# Altium integrated library Circuit Protection -TVSP_rev15a (1).intlib: 320 symbols (part 3 of 4)
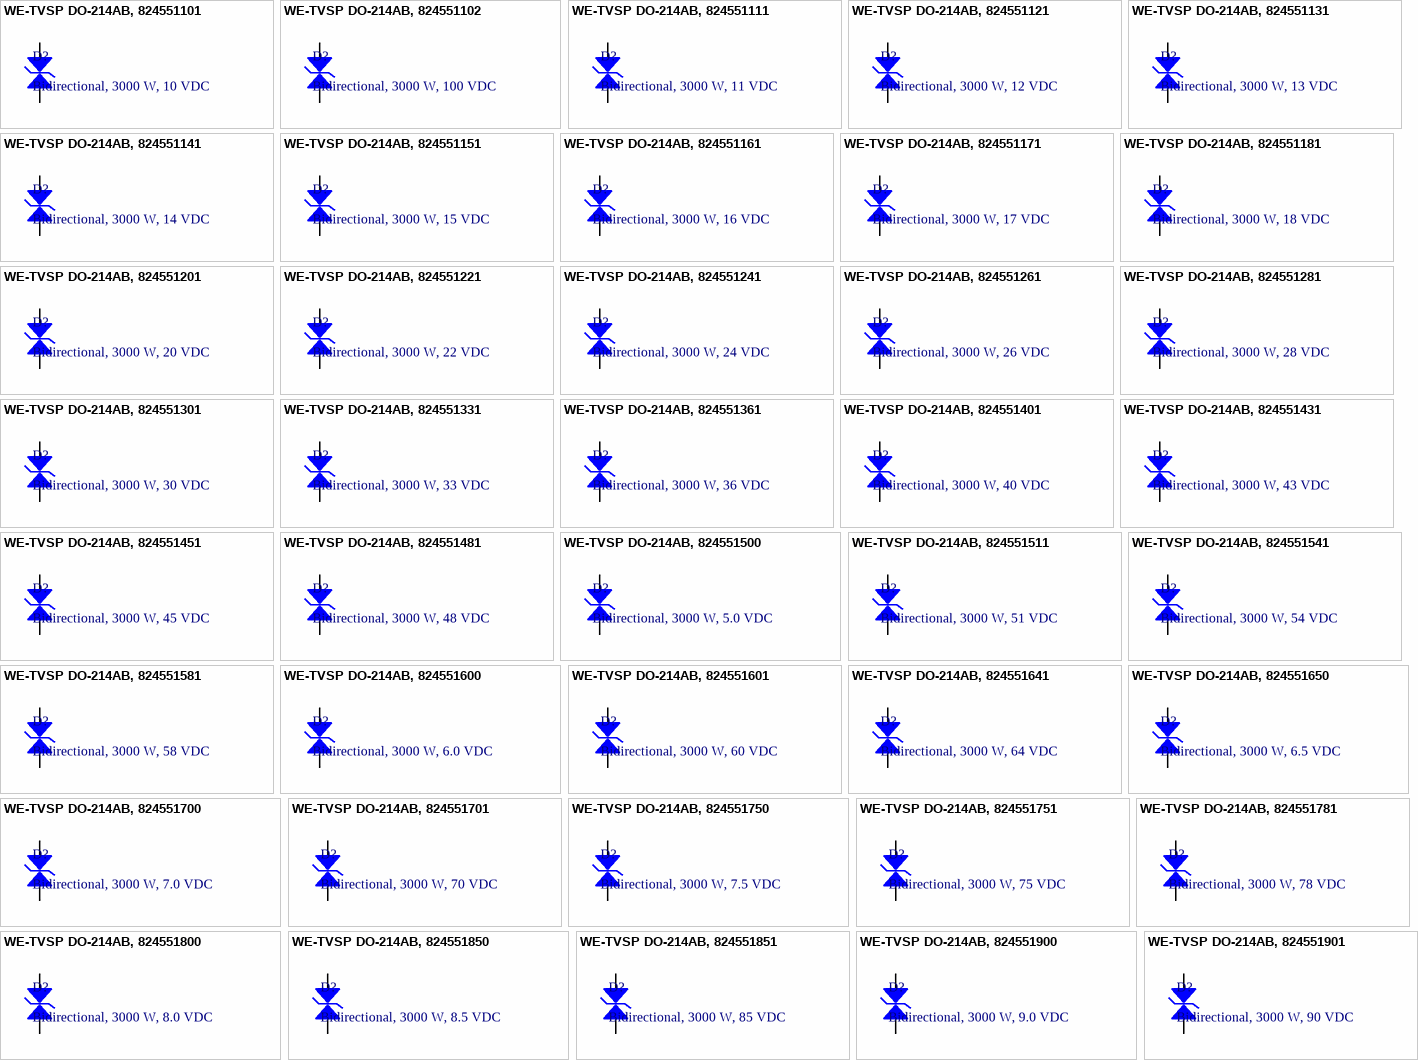
[diagram p9: symbols WE-TVSP DO-214AB, 824551101 to WE-TVSP DO-214AB, 824551901]

## WE-TVSP DO-214AB, 824551131
designator D?, comment Bidirectional, 3000 W, 13 VDC
WE-TVSP Power TVS Diode, bidirectional, 3000 W, 13 VDC; partNo: 824551131; Manufacturer: Wurth Elektronik; ComponentLink1Description: Manufacturer; ComponentLink1URL: http://www.we-online.de; Created by: Baojun Chen; Created Date: Nov.2015; ComponentLink2Description: Datasheet; ComponentLink2URL: http://katalog.we-online.de/pbs/datasheet/824551131.pdf
footprint DO-214AB_Bidirectional
pins: 1, 2

## WE-TVSP DO-214AB, 824551141
designator D?, comment Bidirectional, 3000 W, 14 VDC
WE-TVSP Power TVS Diode, bidirectional, 3000 W, 14 VDC; partNo: 824551141; Manufacturer: Wurth Elektronik; ComponentLink1Description: Manufacturer; ComponentLink1URL: http://www.we-online.de; Created by: Baojun Chen; Created Date: Nov.2015; ComponentLink2Description: Datasheet; ComponentLink2URL: http://katalog.we-online.de/pbs/datasheet/824551141.pdf
footprint DO-214AB_Bidirectional
pins: 1, 2

## WE-TVSP DO-214AB, 824551151
designator D?, comment Bidirectional, 3000 W, 15 VDC
WE-TVSP Power TVS Diode, bidirectional, 3000 W, 15 VDC; partNo: 824551151; Manufacturer: Wurth Elektronik; ComponentLink1Description: Manufacturer; ComponentLink1URL: http://www.we-online.de; Created by: Baojun Chen; Created Date: Nov.2015; ComponentLink2Description: Datasheet; ComponentLink2URL: http://katalog.we-online.de/pbs/datasheet/824551151.pdf
footprint DO-214AB_Bidirectional
pins: 1, 2

## WE-TVSP DO-214AB, 824551161
designator D?, comment Bidirectional, 3000 W, 16 VDC
WE-TVSP Power TVS Diode, bidirectional, 3000 W, 16 VDC; partNo: 824551161; Manufacturer: Wurth Elektronik; ComponentLink1Description: Manufacturer; ComponentLink1URL: http://www.we-online.de; Created by: Baojun Chen; Created Date: Nov.2015; ComponentLink2Description: Datasheet; ComponentLink2URL: http://katalog.we-online.de/pbs/datasheet/824551161.pdf
footprint DO-214AB_Bidirectional
pins: 1, 2

## WE-TVSP DO-214AB, 824551171
designator D?, comment Bidirectional, 3000 W, 17 VDC
WE-TVSP Power TVS Diode, bidirectional, 3000 W, 17 VDC; partNo: 824551171; Manufacturer: Wurth Elektronik; ComponentLink1Description: Manufacturer; ComponentLink1URL: http://www.we-online.de; Created by: Baojun Chen; Created Date: Nov.2015; ComponentLink2Description: Datasheet; ComponentLink2URL: http://katalog.we-online.de/pbs/datasheet/824551171.pdf
footprint DO-214AB_Bidirectional
pins: 1, 2

## WE-TVSP DO-214AB, 824551181
designator D?, comment Bidirectional, 3000 W, 18 VDC
WE-TVSP Power TVS Diode, bidirectional, 3000 W, 18 VDC; partNo: 824551181; Manufacturer: Wurth Elektronik; ComponentLink1Description: Manufacturer; ComponentLink1URL: http://www.we-online.de; Created by: Baojun Chen; Created Date: Nov.2015; ComponentLink2Description: Datasheet; ComponentLink2URL: http://katalog.we-online.de/pbs/datasheet/824551181.pdf
footprint DO-214AB_Bidirectional
pins: 1, 2

## WE-TVSP DO-214AB, 824551201
designator D?, comment Bidirectional, 3000 W, 20 VDC
WE-TVSP Power TVS Diode, bidirectional, 3000 W, 20 VDC; partNo: 824551201; Manufacturer: Wurth Elektronik; ComponentLink1Description: Manufacturer; ComponentLink1URL: http://www.we-online.de; Created by: Baojun Chen; Created Date: Nov.2015; ComponentLink2Description: Datasheet; ComponentLink2URL: http://katalog.we-online.de/pbs/datasheet/824551201.pdf
footprint DO-214AB_Bidirectional
pins: 1, 2

## WE-TVSP DO-214AB, 824551221
designator D?, comment Bidirectional, 3000 W, 22 VDC
WE-TVSP Power TVS Diode, bidirectional, 3000 W, 22 VDC; partNo: 824551221; Manufacturer: Wurth Elektronik; ComponentLink1Description: Manufacturer; ComponentLink1URL: http://www.we-online.de; Created by: Baojun Chen; Created Date: Nov.2015; ComponentLink2Description: Datasheet; ComponentLink2URL: http://katalog.we-online.de/pbs/datasheet/824551221.pdf
footprint DO-214AB_Bidirectional
pins: 1, 2

## WE-TVSP DO-214AB, 824551241
designator D?, comment Bidirectional, 3000 W, 24 VDC
WE-TVSP Power TVS Diode, bidirectional, 3000 W, 24 VDC; partNo: 824551241; Manufacturer: Wurth Elektronik; ComponentLink1Description: Manufacturer; ComponentLink1URL: http://www.we-online.de; Created by: Baojun Chen; Created Date: Nov.2015; ComponentLink2Description: Datasheet; ComponentLink2URL: http://katalog.we-online.de/pbs/datasheet/824551241.pdf
footprint DO-214AB_Bidirectional
pins: 1, 2

## WE-TVSP DO-214AB, 824551261
designator D?, comment Bidirectional, 3000 W, 26 VDC
WE-TVSP Power TVS Diode, bidirectional, 3000 W, 26 VDC; partNo: 824551261; Manufacturer: Wurth Elektronik; ComponentLink1Description: Manufacturer; ComponentLink1URL: http://www.we-online.de; Created by: Baojun Chen; Created Date: Nov.2015; ComponentLink2Description: Datasheet; ComponentLink2URL: http://katalog.we-online.de/pbs/datasheet/824551261.pdf
footprint DO-214AB_Bidirectional
pins: 1, 2

## WE-TVSP DO-214AB, 824551281
designator D?, comment Bidirectional, 3000 W, 28 VDC
WE-TVSP Power TVS Diode, bidirectional, 3000 W, 28 VDC; partNo: 824551281; Manufacturer: Wurth Elektronik; ComponentLink1Description: Manufacturer; ComponentLink1URL: http://www.we-online.de; Created by: Baojun Chen; Created Date: Nov.2015; ComponentLink2Description: Datasheet; ComponentLink2URL: http://katalog.we-online.de/pbs/datasheet/824551281.pdf
footprint DO-214AB_Bidirectional
pins: 1, 2

## WE-TVSP DO-214AB, 824551301
designator D?, comment Bidirectional, 3000 W, 30 VDC
WE-TVSP Power TVS Diode, bidirectional, 3000 W, 30 VDC; partNo: 824551301; Manufacturer: Wurth Elektronik; ComponentLink1Description: Manufacturer; ComponentLink1URL: http://www.we-online.de; Created by: Baojun Chen; Created Date: Nov.2015; ComponentLink2Description: Datasheet; ComponentLink2URL: http://katalog.we-online.de/pbs/datasheet/824551301.pdf
footprint DO-214AB_Bidirectional
pins: 1, 2

## WE-TVSP DO-214AB, 824551331
designator D?, comment Bidirectional, 3000 W, 33 VDC
WE-TVSP Power TVS Diode, bidirectional, 3000 W, 33 VDC; partNo: 824551331; Manufacturer: Wurth Elektronik; ComponentLink1Description: Manufacturer; ComponentLink1URL: http://www.we-online.de; Created by: Baojun Chen; Created Date: Nov.2015; ComponentLink2Description: Datasheet; ComponentLink2URL: http://katalog.we-online.de/pbs/datasheet/824551331.pdf
footprint DO-214AB_Bidirectional
pins: 1, 2

## WE-TVSP DO-214AB, 824551361
designator D?, comment Bidirectional, 3000 W, 36 VDC
WE-TVSP Power TVS Diode, bidirectional, 3000 W, 36 VDC; partNo: 824551361; Manufacturer: Wurth Elektronik; ComponentLink1Description: Manufacturer; ComponentLink1URL: http://www.we-online.de; Created by: Baojun Chen; Created Date: Nov.2015; ComponentLink2Description: Datasheet; ComponentLink2URL: http://katalog.we-online.de/pbs/datasheet/824551361.pdf
footprint DO-214AB_Bidirectional
pins: 1, 2

## WE-TVSP DO-214AB, 824551401
designator D?, comment Bidirectional, 3000 W, 40 VDC
WE-TVSP Power TVS Diode, bidirectional, 3000 W, 40 VDC; partNo: 824551401; Manufacturer: Wurth Elektronik; ComponentLink1Description: Manufacturer; ComponentLink1URL: http://www.we-online.de; Created by: Baojun Chen; Created Date: Nov.2015; ComponentLink2Description: Datasheet; ComponentLink2URL: http://katalog.we-online.de/pbs/datasheet/824551401.pdf
footprint DO-214AB_Bidirectional
pins: 1, 2

## WE-TVSP DO-214AB, 824551431
designator D?, comment Bidirectional, 3000 W, 43 VDC
WE-TVSP Power TVS Diode, bidirectional, 3000 W, 43 VDC; partNo: 824551431; Manufacturer: Wurth Elektronik; ComponentLink1Description: Manufacturer; ComponentLink1URL: http://www.we-online.de; Created by: Baojun Chen; Created Date: Nov.2015; ComponentLink2Description: Datasheet; ComponentLink2URL: http://katalog.we-online.de/pbs/datasheet/824551431.pdf
footprint DO-214AB_Bidirectional
pins: 1, 2

## WE-TVSP DO-214AB, 824551451
designator D?, comment Bidirectional, 3000 W, 45 VDC
WE-TVSP Power TVS Diode, bidirectional, 3000 W, 45 VDC; partNo: 824551451; Manufacturer: Wurth Elektronik; ComponentLink1Description: Manufacturer; ComponentLink1URL: http://www.we-online.de; Created by: Baojun Chen; Created Date: Nov.2015; ComponentLink2Description: Datasheet; ComponentLink2URL: http://katalog.we-online.de/pbs/datasheet/824551451.pdf
footprint DO-214AB_Bidirectional
pins: 1, 2

## WE-TVSP DO-214AB, 824551481
designator D?, comment Bidirectional, 3000 W, 48 VDC
WE-TVSP Power TVS Diode, bidirectional, 3000 W, 48 VDC; partNo: 824551481; Manufacturer: Wurth Elektronik; ComponentLink1Description: Manufacturer; ComponentLink1URL: http://www.we-online.de; Created by: Baojun Chen; Created Date: Nov.2015; ComponentLink2Description: Datasheet; ComponentLink2URL: http://katalog.we-online.de/pbs/datasheet/824551481.pdf
footprint DO-214AB_Bidirectional
pins: 1, 2

## WE-TVSP DO-214AB, 824551500
designator D?, comment Bidirectional, 3000 W, 5.0 VDC
WE-TVSP Power TVS Diode, bidirectional, 3000 W, 5.0 VDC; partNo: 824551500; Manufacturer: Wurth Elektronik; ComponentLink1Description: Manufacturer; ComponentLink1URL: http://www.we-online.de; Created by: Baojun Chen; Created Date: Nov.2015; ComponentLink2Description: Datasheet; ComponentLink2URL: http://katalog.we-online.de/pbs/datasheet/824551500.pdf
footprint DO-214AB_Bidirectional
pins: 1, 2

## WE-TVSP DO-214AB, 824551511
designator D?, comment Bidirectional, 3000 W, 51 VDC
WE-TVSP Power TVS Diode, bidirectional, 3000 W, 51 VDC; partNo: 824551511; Manufacturer: Wurth Elektronik; ComponentLink1Description: Manufacturer; ComponentLink1URL: http://www.we-online.de; Created by: Baojun Chen; Created Date: Nov.2015; ComponentLink2Description: Datasheet; ComponentLink2URL: http://katalog.we-online.de/pbs/datasheet/824551511.pdf
footprint DO-214AB_Bidirectional
pins: 1, 2

## WE-TVSP DO-214AB, 824551541
designator D?, comment Bidirectional, 3000 W, 54 VDC
WE-TVSP Power TVS Diode, bidirectional, 3000 W, 54 VDC; partNo: 824551541; Manufacturer: Wurth Elektronik; ComponentLink1Description: Manufacturer; ComponentLink1URL: http://www.we-online.de; Created by: Baojun Chen; Created Date: Nov.2015; ComponentLink2Description: Datasheet; ComponentLink2URL: http://katalog.we-online.de/pbs/datasheet/824551541.pdf
footprint DO-214AB_Bidirectional
pins: 1, 2

## WE-TVSP DO-214AB, 824551581
designator D?, comment Bidirectional, 3000 W, 58 VDC
WE-TVSP Power TVS Diode, bidirectional, 3000 W, 58 VDC; partNo: 824551581; Manufacturer: Wurth Elektronik; ComponentLink1Description: Manufacturer; ComponentLink1URL: http://www.we-online.de; Created by: Baojun Chen; Created Date: Nov.2015; ComponentLink2Description: Datasheet; ComponentLink2URL: http://katalog.we-online.de/pbs/datasheet/824551581.pdf
footprint DO-214AB_Bidirectional
pins: 1, 2

## WE-TVSP DO-214AB, 824551600
designator D?, comment Bidirectional, 3000 W, 6.0 VDC
WE-TVSP Power TVS Diode, bidirectional, 3000 W, 6.0 VDC; partNo: 824551600; Manufacturer: Wurth Elektronik; ComponentLink1Description: Manufacturer; ComponentLink1URL: http://www.we-online.de; Created by: Baojun Chen; Created Date: Nov.2015; ComponentLink2Description: Datasheet; ComponentLink2URL: http://katalog.we-online.de/pbs/datasheet/824551600.pdf
footprint DO-214AB_Bidirectional
pins: 1, 2

## WE-TVSP DO-214AB, 824551601
designator D?, comment Bidirectional, 3000 W, 60 VDC
WE-TVSP Power TVS Diode, bidirectional, 3000 W, 60 VDC; partNo: 824551601; Manufacturer: Wurth Elektronik; ComponentLink1Description: Manufacturer; ComponentLink1URL: http://www.we-online.de; Created by: Baojun Chen; Created Date: Nov.2015; ComponentLink2Description: Datasheet; ComponentLink2URL: http://katalog.we-online.de/pbs/datasheet/824551601.pdf
footprint DO-214AB_Bidirectional
pins: 1, 2

## WE-TVSP DO-214AB, 824551641
designator D?, comment Bidirectional, 3000 W, 64 VDC
WE-TVSP Power TVS Diode, bidirectional, 3000 W, 64 VDC; partNo: 824551641; Manufacturer: Wurth Elektronik; ComponentLink1Description: Manufacturer; ComponentLink1URL: http://www.we-online.de; Created by: Baojun Chen; Created Date: Nov.2015; ComponentLink2Description: Datasheet; ComponentLink2URL: http://katalog.we-online.de/pbs/datasheet/824551641.pdf
footprint DO-214AB_Bidirectional
pins: 1, 2

## WE-TVSP DO-214AB, 824551650
designator D?, comment Bidirectional, 3000 W, 6.5 VDC
WE-TVSP Power TVS Diode, bidirectional, 3000 W, 6.5 VDC; partNo: 824551650; Manufacturer: Wurth Elektronik; ComponentLink1Description: Manufacturer; ComponentLink1URL: http://www.we-online.de; Created by: Baojun Chen; Created Date: Nov.2015; ComponentLink2Description: Datasheet; ComponentLink2URL: http://katalog.we-online.de/pbs/datasheet/824551650.pdf
footprint DO-214AB_Bidirectional
pins: 1, 2

## WE-TVSP DO-214AB, 824551700
designator D?, comment Bidirectional, 3000 W, 7.0 VDC
WE-TVSP Power TVS Diode, bidirectional, 3000 W, 7.0 VDC; partNo: 824551700; Manufacturer: Wurth Elektronik; ComponentLink1Description: Manufacturer; ComponentLink1URL: http://www.we-online.de; Created by: Baojun Chen; Created Date: Nov.2015; ComponentLink2Description: Datasheet; ComponentLink2URL: http://katalog.we-online.de/pbs/datasheet/824551700.pdf
footprint DO-214AB_Bidirectional
pins: 1, 2

## WE-TVSP DO-214AB, 824551701
designator D?, comment Bidirectional, 3000 W, 70 VDC
WE-TVSP Power TVS Diode, bidirectional, 3000 W, 70 VDC; partNo: 824551701; Manufacturer: Wurth Elektronik; ComponentLink1Description: Manufacturer; ComponentLink1URL: http://www.we-online.de; Created by: Baojun Chen; Created Date: Nov.2015; ComponentLink2Description: Datasheet; ComponentLink2URL: http://katalog.we-online.de/pbs/datasheet/824551701.pdf
footprint DO-214AB_Bidirectional
pins: 1, 2

## WE-TVSP DO-214AB, 824551750
designator D?, comment Bidirectional, 3000 W, 7.5 VDC
WE-TVSP Power TVS Diode, bidirectional, 3000 W, 7.5 VDC; partNo: 824551750; Manufacturer: Wurth Elektronik; ComponentLink1Description: Manufacturer; ComponentLink1URL: http://www.we-online.de; Created by: Baojun Chen; Created Date: Nov.2015; ComponentLink2Description: Datasheet; ComponentLink2URL: http://katalog.we-online.de/pbs/datasheet/824551750.pdf
footprint DO-214AB_Bidirectional
pins: 1, 2

## WE-TVSP DO-214AB, 824551751
designator D?, comment Bidirectional, 3000 W, 75 VDC
WE-TVSP Power TVS Diode, bidirectional, 3000 W, 75 VDC; partNo: 824551751; Manufacturer: Wurth Elektronik; ComponentLink1Description: Manufacturer; ComponentLink1URL: http://www.we-online.de; Created by: Baojun Chen; Created Date: Nov.2015; ComponentLink2Description: Datasheet; ComponentLink2URL: http://katalog.we-online.de/pbs/datasheet/824551751.pdf
footprint DO-214AB_Bidirectional
pins: 1, 2

## WE-TVSP DO-214AB, 824551781
designator D?, comment Bidirectional, 3000 W, 78 VDC
WE-TVSP Power TVS Diode, bidirectional, 3000 W, 78 VDC; partNo: 824551781; Manufacturer: Wurth Elektronik; ComponentLink1Description: Manufacturer; ComponentLink1URL: http://www.we-online.de; Created by: Baojun Chen; Created Date: Nov.2015; ComponentLink2Description: Datasheet; ComponentLink2URL: http://katalog.we-online.de/pbs/datasheet/824551781.pdf
footprint DO-214AB_Bidirectional
pins: 1, 2

## WE-TVSP DO-214AB, 824551800
designator D?, comment Bidirectional, 3000 W, 8.0 VDC
WE-TVSP Power TVS Diode, bidirectional, 3000 W, 8.0 VDC; partNo: 824551800; Manufacturer: Wurth Elektronik; ComponentLink1Description: Manufacturer; ComponentLink1URL: http://www.we-online.de; Created by: Baojun Chen; Created Date: Nov.2015; ComponentLink2Description: Datasheet; ComponentLink2URL: http://katalog.we-online.de/pbs/datasheet/824551800.pdf
footprint DO-214AB_Bidirectional
pins: 1, 2

## WE-TVSP DO-214AB, 824551850
designator D?, comment Bidirectional, 3000 W, 8.5 VDC
WE-TVSP Power TVS Diode, bidirectional, 3000 W, 8.5 VDC; partNo: 824551850; Manufacturer: Wurth Elektronik; ComponentLink1Description: Manufacturer; ComponentLink1URL: http://www.we-online.de; Created by: Baojun Chen; Created Date: Nov.2015; ComponentLink2Description: Datasheet; ComponentLink2URL: http://katalog.we-online.de/pbs/datasheet/824551850.pdf
footprint DO-214AB_Bidirectional
pins: 1, 2

## WE-TVSP DO-214AB, 824551851
designator D?, comment Bidirectional, 3000 W, 85 VDC
WE-TVSP Power TVS Diode, bidirectional, 3000 W, 85 VDC; partNo: 824551851; Manufacturer: Wurth Elektronik; ComponentLink1Description: Manufacturer; ComponentLink1URL: http://www.we-online.de; Created by: Baojun Chen; Created Date: Nov.2015; ComponentLink2Description: Datasheet; ComponentLink2URL: http://katalog.we-online.de/pbs/datasheet/824551851.pdf
footprint DO-214AB_Bidirectional
pins: 1, 2

## WE-TVSP DO-214AB, 824551900
designator D?, comment Bidirectional, 3000 W, 9.0 VDC
WE-TVSP Power TVS Diode, bidirectional, 3000 W, 9.0 VDC; partNo: 824551900; Manufacturer: Wurth Elektronik; ComponentLink1Description: Manufacturer; ComponentLink1URL: http://www.we-online.de; Created by: Baojun Chen; Created Date: Nov.2015; ComponentLink2Description: Datasheet; ComponentLink2URL: http://katalog.we-online.de/pbs/datasheet/824551900.pdf
footprint DO-214AB_Bidirectional
pins: 1, 2

## WE-TVSP DO-214AB, 824551901
designator D?, comment Bidirectional, 3000 W, 90 VDC
WE-TVSP Power TVS Diode, bidirectional, 3000 W, 90 VDC; partNo: 824551901; Manufacturer: Wurth Elektronik; ComponentLink1Description: Manufacturer; ComponentLink1URL: http://www.we-online.de; Created by: Baojun Chen; Created Date: Nov.2015; ComponentLink2Description: Datasheet; ComponentLink2URL: http://katalog.we-online.de/pbs/datasheet/824551901.pdf
footprint DO-214AB_Bidirectional
pins: 1, 2


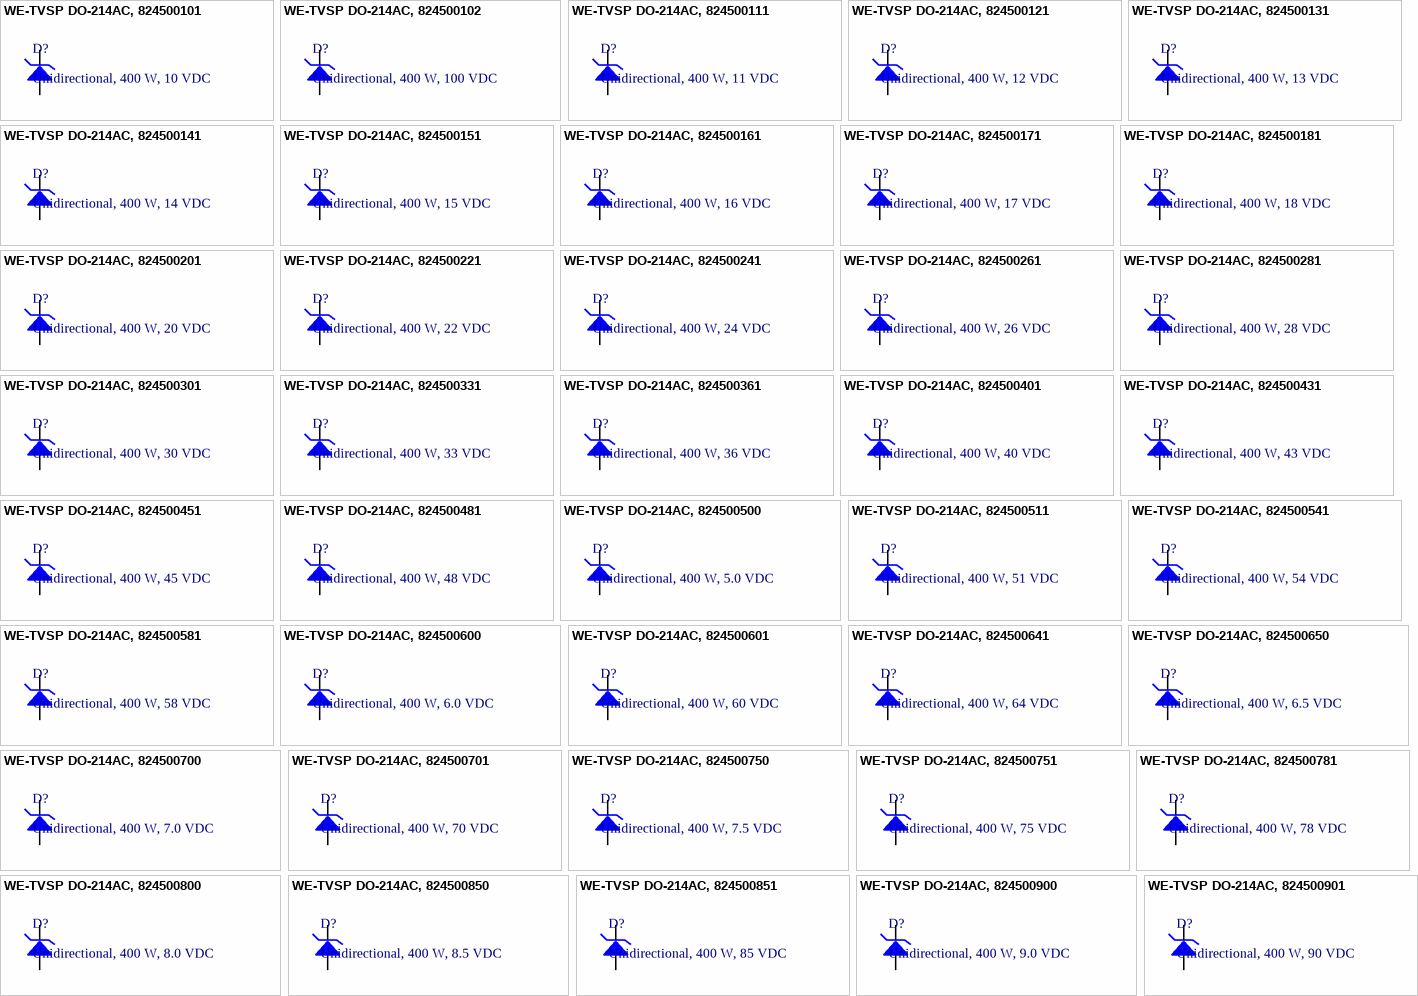
[diagram p6: symbols WE-TVSP DO-214AC, 824500101 to WE-TVSP DO-214AC, 824500901]

## WE-TVSP DO-214AC, 824500101
designator D?, comment Unidirectional, 400 W, 10 VDC
WE-TVSP Power TVS Diode, Unidirectional, 400 W, 10 VDC; partNo: 824500101; Manufacturer: Wurth Elektronik; ComponentLink1Description: Manufacturer; ComponentLink1URL: http://www.we-online.de; Created by: Baojun Chen; Created Date: Nov.2015; ComponentLink2Description: Datasheet; ComponentLink2URL: http://katalog.we-online.de/pbs/datasheet/824500101.pdf
footprint DO-214AC_Unidirectional
pins: 1, 2

## WE-TVSP DO-214AC, 824500102
designator D?, comment Unidirectional, 400 W, 100 VDC
WE-TVSP Power TVS Diode, Unidirectional, 400 W, 100 VDC; partNo: 824500102; Manufacturer: Wurth Elektronik; ComponentLink1Description: Manufacturer; ComponentLink1URL: http://www.we-online.de; Created by: Baojun Chen; Created Date: Nov.2015; ComponentLink2Description: Datasheet; ComponentLink2URL: http://katalog.we-online.de/pbs/datasheet/824500102.pdf
footprint DO-214AC_Unidirectional
pins: 1, 2

## WE-TVSP DO-214AC, 824500111
designator D?, comment Unidirectional, 400 W, 11 VDC
WE-TVSP Power TVS Diode, Unidirectional, 400 W, 11 VDC; partNo: 824500111; Manufacturer: Wurth Elektronik; ComponentLink1Description: Manufacturer; ComponentLink1URL: http://www.we-online.de; Created by: Baojun Chen; Created Date: Nov.2015; ComponentLink2Description: Datasheet; ComponentLink2URL: http://katalog.we-online.de/pbs/datasheet/824500111.pdf
footprint DO-214AC_Unidirectional
pins: 1, 2

## WE-TVSP DO-214AC, 824500121
designator D?, comment Unidirectional, 400 W, 12 VDC
WE-TVSP Power TVS Diode, Unidirectional, 400 W, 12 VDC; partNo: 824500121; Manufacturer: Wurth Elektronik; ComponentLink1Description: Manufacturer; ComponentLink1URL: http://www.we-online.de; Created by: Baojun Chen; Created Date: Nov.2015; ComponentLink2Description: Datasheet; ComponentLink2URL: http://katalog.we-online.de/pbs/datasheet/824500121.pdf
footprint DO-214AC_Unidirectional
pins: 1, 2

## WE-TVSP DO-214AC, 824500131
designator D?, comment Unidirectional, 400 W, 13 VDC
WE-TVSP Power TVS Diode, Unidirectional, 400 W, 13 VDC; partNo: 824500131; Manufacturer: Wurth Elektronik; ComponentLink1Description: Manufacturer; ComponentLink1URL: http://www.we-online.de; Created by: Baojun Chen; Created Date: Nov.2015; ComponentLink2Description: Datasheet; ComponentLink2URL: http://katalog.we-online.de/pbs/datasheet/824500131.pdf
footprint DO-214AC_Unidirectional
pins: 1, 2

## WE-TVSP DO-214AC, 824500141
designator D?, comment Unidirectional, 400 W, 14 VDC
WE-TVSP Power TVS Diode, Unidirectional, 400 W, 14 VDC; partNo: 824500141; Manufacturer: Wurth Elektronik; ComponentLink1Description: Manufacturer; ComponentLink1URL: http://www.we-online.de; Created by: Baojun Chen; Created Date: Nov.2015; ComponentLink2Description: Datasheet; ComponentLink2URL: http://katalog.we-online.de/pbs/datasheet/824500141.pdf
footprint DO-214AC_Unidirectional
pins: 1, 2

## WE-TVSP DO-214AC, 824500151
designator D?, comment Unidirectional, 400 W, 15 VDC
WE-TVSP Power TVS Diode, Unidirectional, 400 W, 15 VDC; partNo: 824500151; Manufacturer: Wurth Elektronik; ComponentLink1Description: Manufacturer; ComponentLink1URL: http://www.we-online.de; Created by: Baojun Chen; Created Date: Nov.2015; ComponentLink2Description: Datasheet; ComponentLink2URL: http://katalog.we-online.de/pbs/datasheet/824500151.pdf
footprint DO-214AC_Unidirectional
pins: 1, 2

## WE-TVSP DO-214AC, 824500161
designator D?, comment Unidirectional, 400 W, 16 VDC
WE-TVSP Power TVS Diode, Unidirectional, 400 W, 16 VDC; partNo: 824500161; Manufacturer: Wurth Elektronik; ComponentLink1Description: Manufacturer; ComponentLink1URL: http://www.we-online.de; Created by: Baojun Chen; Created Date: Nov.2015; ComponentLink2Description: Datasheet; ComponentLink2URL: http://katalog.we-online.de/pbs/datasheet/824500161.pdf
footprint DO-214AC_Unidirectional
pins: 1, 2

## WE-TVSP DO-214AC, 824500171
designator D?, comment Unidirectional, 400 W, 17 VDC
WE-TVSP Power TVS Diode, Unidirectional, 400 W, 17 VDC; partNo: 824500171; Manufacturer: Wurth Elektronik; ComponentLink1Description: Manufacturer; ComponentLink1URL: http://www.we-online.de; Created by: Baojun Chen; Created Date: Nov.2015; ComponentLink2Description: Datasheet; ComponentLink2URL: http://katalog.we-online.de/pbs/datasheet/824500171.pdf
footprint DO-214AC_Unidirectional
pins: 1, 2

## WE-TVSP DO-214AC, 824500181
designator D?, comment Unidirectional, 400 W, 18 VDC
WE-TVSP Power TVS Diode, Unidirectional, 400 W, 18 VDC; partNo: 824500181; Manufacturer: Wurth Elektronik; ComponentLink1Description: Manufacturer; ComponentLink1URL: http://www.we-online.de; Created by: Baojun Chen; Created Date: Nov.2015; ComponentLink2Description: Datasheet; ComponentLink2URL: http://katalog.we-online.de/pbs/datasheet/824500181.pdf
footprint DO-214AC_Unidirectional
pins: 1, 2

## WE-TVSP DO-214AC, 824500201
designator D?, comment Unidirectional, 400 W, 20 VDC
WE-TVSP Power TVS Diode, Unidirectional, 400 W, 20 VDC; partNo: 824500201; Manufacturer: Wurth Elektronik; ComponentLink1Description: Manufacturer; ComponentLink1URL: http://www.we-online.de; Created by: Baojun Chen; Created Date: Nov.2015; ComponentLink2Description: Datasheet; ComponentLink2URL: http://katalog.we-online.de/pbs/datasheet/824500201.pdf
footprint DO-214AC_Unidirectional
pins: 1, 2

## WE-TVSP DO-214AC, 824500221
designator D?, comment Unidirectional, 400 W, 22 VDC
WE-TVSP Power TVS Diode, Unidirectional, 400 W, 22 VDC; partNo: 824500221; Manufacturer: Wurth Elektronik; ComponentLink1Description: Manufacturer; ComponentLink1URL: http://www.we-online.de; Created by: Baojun Chen; Created Date: Nov.2015; ComponentLink2Description: Datasheet; ComponentLink2URL: http://katalog.we-online.de/pbs/datasheet/824500221.pdf
footprint DO-214AC_Unidirectional
pins: 1, 2

## WE-TVSP DO-214AC, 824500241
designator D?, comment Unidirectional, 400 W, 24 VDC
WE-TVSP Power TVS Diode, Unidirectional, 400 W, 24 VDC; partNo: 824500241; Manufacturer: Wurth Elektronik; ComponentLink1Description: Manufacturer; ComponentLink1URL: http://www.we-online.de; Created by: Baojun Chen; Created Date: Nov.2015; ComponentLink2Description: Datasheet; ComponentLink2URL: http://katalog.we-online.de/pbs/datasheet/824500241.pdf
footprint DO-214AC_Unidirectional
pins: 1, 2

## WE-TVSP DO-214AC, 824500261
designator D?, comment Unidirectional, 400 W, 26 VDC
WE-TVSP Power TVS Diode, Unidirectional, 400 W, 26 VDC; partNo: 824500261; Manufacturer: Wurth Elektronik; ComponentLink1Description: Manufacturer; ComponentLink1URL: http://www.we-online.de; Created by: Baojun Chen; Created Date: Nov.2015; ComponentLink2Description: Datasheet; ComponentLink2URL: http://katalog.we-online.de/pbs/datasheet/824500261.pdf
footprint DO-214AC_Unidirectional
pins: 1, 2

## WE-TVSP DO-214AC, 824500281
designator D?, comment Unidirectional, 400 W, 28 VDC
WE-TVSP Power TVS Diode, Unidirectional, 400 W, 28 VDC; partNo: 824500281; Manufacturer: Wurth Elektronik; ComponentLink1Description: Manufacturer; ComponentLink1URL: http://www.we-online.de; Created by: Baojun Chen; Created Date: Nov.2015; ComponentLink2Description: Datasheet; ComponentLink2URL: http://katalog.we-online.de/pbs/datasheet/824500281.pdf
footprint DO-214AC_Unidirectional
pins: 1, 2

## WE-TVSP DO-214AC, 824500301
designator D?, comment Unidirectional, 400 W, 30 VDC
WE-TVSP Power TVS Diode, Unidirectional, 400 W, 30 VDC; partNo: 824500301; Manufacturer: Wurth Elektronik; ComponentLink1Description: Manufacturer; ComponentLink1URL: http://www.we-online.de; Created by: Baojun Chen; Created Date: Nov.2015; ComponentLink2Description: Datasheet; ComponentLink2URL: http://katalog.we-online.de/pbs/datasheet/824500301.pdf
footprint DO-214AC_Unidirectional
pins: 1, 2

## WE-TVSP DO-214AC, 824500331
designator D?, comment Unidirectional, 400 W, 33 VDC
WE-TVSP Power TVS Diode, Unidirectional, 400 W, 33 VDC; partNo: 824500331; Manufacturer: Wurth Elektronik; ComponentLink1Description: Manufacturer; ComponentLink1URL: http://www.we-online.de; Created by: Baojun Chen; Created Date: Nov.2015; ComponentLink2Description: Datasheet; ComponentLink2URL: http://katalog.we-online.de/pbs/datasheet/824500331.pdf
footprint DO-214AC_Unidirectional
pins: 1, 2

## WE-TVSP DO-214AC, 824500361
designator D?, comment Unidirectional, 400 W, 36 VDC
WE-TVSP Power TVS Diode, Unidirectional, 400 W, 36 VDC; partNo: 824500361; Manufacturer: Wurth Elektronik; ComponentLink1Description: Manufacturer; ComponentLink1URL: http://www.we-online.de; Created by: Baojun Chen; Created Date: Nov.2015; ComponentLink2Description: Datasheet; ComponentLink2URL: http://katalog.we-online.de/pbs/datasheet/824500361.pdf
footprint DO-214AC_Unidirectional
pins: 1, 2

## WE-TVSP DO-214AC, 824500401
designator D?, comment Unidirectional, 400 W, 40 VDC
WE-TVSP Power TVS Diode, Unidirectional, 400 W, 40 VDC; partNo: 824500401; Manufacturer: Wurth Elektronik; ComponentLink1Description: Manufacturer; ComponentLink1URL: http://www.we-online.de; Created by: Baojun Chen; Created Date: Nov.2015; ComponentLink2Description: Datasheet; ComponentLink2URL: http://katalog.we-online.de/pbs/datasheet/824500401.pdf
footprint DO-214AC_Unidirectional
pins: 1, 2

## WE-TVSP DO-214AC, 824500431
designator D?, comment Unidirectional, 400 W, 43 VDC
WE-TVSP Power TVS Diode, Unidirectional, 400 W, 43 VDC; partNo: 824500431; Manufacturer: Wurth Elektronik; ComponentLink1Description: Manufacturer; ComponentLink1URL: http://www.we-online.de; Created by: Baojun Chen; Created Date: Nov.2015; ComponentLink2Description: Datasheet; ComponentLink2URL: http://katalog.we-online.de/pbs/datasheet/824500431.pdf
footprint DO-214AC_Unidirectional
pins: 1, 2

## WE-TVSP DO-214AC, 824500451
designator D?, comment Unidirectional, 400 W, 45 VDC
WE-TVSP Power TVS Diode, Unidirectional, 400 W, 45 VDC; partNo: 824500451; Manufacturer: Wurth Elektronik; ComponentLink1Description: Manufacturer; ComponentLink1URL: http://www.we-online.de; Created by: Baojun Chen; Created Date: Nov.2015; ComponentLink2Description: Datasheet; ComponentLink2URL: http://katalog.we-online.de/pbs/datasheet/824500451.pdf
footprint DO-214AC_Unidirectional
pins: 1, 2

## WE-TVSP DO-214AC, 824500481
designator D?, comment Unidirectional, 400 W, 48 VDC
WE-TVSP Power TVS Diode, Unidirectional, 400 W, 48 VDC; partNo: 824500481; Manufacturer: Wurth Elektronik; ComponentLink1Description: Manufacturer; ComponentLink1URL: http://www.we-online.de; Created by: Baojun Chen; Created Date: Nov.2015; ComponentLink2Description: Datasheet; ComponentLink2URL: http://katalog.we-online.de/pbs/datasheet/824500481.pdf
footprint DO-214AC_Unidirectional
pins: 1, 2

## WE-TVSP DO-214AC, 824500500
designator D?, comment Unidirectional, 400 W, 5.0 VDC
WE-TVSP Power TVS Diode, Unidirectional, 400 W, 5.0 VDC; partNo: 824500500; Manufacturer: Wurth Elektronik; ComponentLink1Description: Manufacturer; ComponentLink1URL: http://www.we-online.de; Created by: Baojun Chen; Created Date: Nov.2015; ComponentLink2Description: Datasheet; ComponentLink2URL: http://katalog.we-online.de/pbs/datasheet/824500500.pdf
footprint DO-214AC_Unidirectional
pins: 1, 2

## WE-TVSP DO-214AC, 824500511
designator D?, comment Unidirectional, 400 W, 51 VDC
WE-TVSP Power TVS Diode, Unidirectional, 400 W, 51 VDC; partNo: 824500511; Manufacturer: Wurth Elektronik; ComponentLink1Description: Manufacturer; ComponentLink1URL: http://www.we-online.de; Created by: Baojun Chen; Created Date: Nov.2015; ComponentLink2Description: Datasheet; ComponentLink2URL: http://katalog.we-online.de/pbs/datasheet/824500511.pdf
footprint DO-214AC_Unidirectional
pins: 1, 2

## WE-TVSP DO-214AC, 824500541
designator D?, comment Unidirectional, 400 W, 54 VDC
WE-TVSP Power TVS Diode, Unidirectional, 400 W, 54 VDC; partNo: 824500541; Manufacturer: Wurth Elektronik; ComponentLink1Description: Manufacturer; ComponentLink1URL: http://www.we-online.de; Created by: Baojun Chen; Created Date: Nov.2015; ComponentLink2Description: Datasheet; ComponentLink2URL: http://katalog.we-online.de/pbs/datasheet/824500541.pdf
footprint DO-214AC_Unidirectional
pins: 1, 2

## WE-TVSP DO-214AC, 824500581
designator D?, comment Unidirectional, 400 W, 58 VDC
WE-TVSP Power TVS Diode, Unidirectional, 400 W, 58 VDC; partNo: 824500581; Manufacturer: Wurth Elektronik; ComponentLink1Description: Manufacturer; ComponentLink1URL: http://www.we-online.de; Created by: Baojun Chen; Created Date: Nov.2015; ComponentLink2Description: Datasheet; ComponentLink2URL: http://katalog.we-online.de/pbs/datasheet/824500581.pdf
footprint DO-214AC_Unidirectional
pins: 1, 2

## WE-TVSP DO-214AC, 824500600
designator D?, comment Unidirectional, 400 W, 6.0 VDC
WE-TVSP Power TVS Diode, Unidirectional, 400 W, 6.0 VDC; partNo: 824500600; Manufacturer: Wurth Elektronik; ComponentLink1Description: Manufacturer; ComponentLink1URL: http://www.we-online.de; Created by: Baojun Chen; Created Date: Nov.2015; ComponentLink2Description: Datasheet; ComponentLink2URL: http://katalog.we-online.de/pbs/datasheet/824500600.pdf
footprint DO-214AC_Unidirectional
pins: 1, 2

## WE-TVSP DO-214AC, 824500601
designator D?, comment Unidirectional, 400 W, 60 VDC
WE-TVSP Power TVS Diode, Unidirectional, 400 W, 60 VDC; partNo: 824500601; Manufacturer: Wurth Elektronik; ComponentLink1Description: Manufacturer; ComponentLink1URL: http://www.we-online.de; Created by: Baojun Chen; Created Date: Nov.2015; ComponentLink2Description: Datasheet; ComponentLink2URL: http://katalog.we-online.de/pbs/datasheet/824500601.pdf
footprint DO-214AC_Unidirectional
pins: 1, 2

## WE-TVSP DO-214AC, 824500641
designator D?, comment Unidirectional, 400 W, 64 VDC
WE-TVSP Power TVS Diode, Unidirectional, 400 W, 64 VDC; partNo: 824500641; Manufacturer: Wurth Elektronik; ComponentLink1Description: Manufacturer; ComponentLink1URL: http://www.we-online.de; Created by: Baojun Chen; Created Date: Nov.2015; ComponentLink2Description: Datasheet; ComponentLink2URL: http://katalog.we-online.de/pbs/datasheet/824500641.pdf
footprint DO-214AC_Unidirectional
pins: 1, 2

## WE-TVSP DO-214AC, 824500650
designator D?, comment Unidirectional, 400 W, 6.5 VDC
WE-TVSP Power TVS Diode, Unidirectional, 400 W, 6.5 VDC; partNo: 824500650; Manufacturer: Wurth Elektronik; ComponentLink1Description: Manufacturer; ComponentLink1URL: http://www.we-online.de; Created by: Baojun Chen; Created Date: Nov.2015; ComponentLink2Description: Datasheet; ComponentLink2URL: http://katalog.we-online.de/pbs/datasheet/824500650.pdf
footprint DO-214AC_Unidirectional
pins: 1, 2

## WE-TVSP DO-214AC, 824500700
designator D?, comment Unidirectional, 400 W, 7.0 VDC
WE-TVSP Power TVS Diode, Unidirectional, 400 W, 7.0 VDC; partNo: 824500700; Manufacturer: Wurth Elektronik; ComponentLink1Description: Manufacturer; ComponentLink1URL: http://www.we-online.de; Created by: Baojun Chen; Created Date: Nov.2015; ComponentLink2Description: Datasheet; ComponentLink2URL: http://katalog.we-online.de/pbs/datasheet/824500700.pdf
footprint DO-214AC_Unidirectional
pins: 1, 2

## WE-TVSP DO-214AC, 824500701
designator D?, comment Unidirectional, 400 W, 70 VDC
WE-TVSP Power TVS Diode, Unidirectional, 400 W, 70 VDC; partNo: 824500701; Manufacturer: Wurth Elektronik; ComponentLink1Description: Manufacturer; ComponentLink1URL: http://www.we-online.de; Created by: Baojun Chen; Created Date: Nov.2015; ComponentLink2Description: Datasheet; ComponentLink2URL: http://katalog.we-online.de/pbs/datasheet/824500701.pdf
footprint DO-214AC_Unidirectional
pins: 1, 2

## WE-TVSP DO-214AC, 824500750
designator D?, comment Unidirectional, 400 W, 7.5 VDC
WE-TVSP Power TVS Diode, Unidirectional, 400 W, 7.5 VDC; partNo: 824500750; Manufacturer: Wurth Elektronik; ComponentLink1Description: Manufacturer; ComponentLink1URL: http://www.we-online.de; Created by: Baojun Chen; Created Date: Nov.2015; ComponentLink2Description: Datasheet; ComponentLink2URL: http://katalog.we-online.de/pbs/datasheet/824500750.pdf
footprint DO-214AC_Unidirectional
pins: 1, 2

## WE-TVSP DO-214AC, 824500751
designator D?, comment Unidirectional, 400 W, 75 VDC
WE-TVSP Power TVS Diode, Unidirectional, 400 W, 75 VDC; partNo: 824500751; Manufacturer: Wurth Elektronik; ComponentLink1Description: Manufacturer; ComponentLink1URL: http://www.we-online.de; Created by: Baojun Chen; Created Date: Nov.2015; ComponentLink2Description: Datasheet; ComponentLink2URL: http://katalog.we-online.de/pbs/datasheet/824500751.pdf
footprint DO-214AC_Unidirectional
pins: 1, 2

## WE-TVSP DO-214AC, 824500781
designator D?, comment Unidirectional, 400 W, 78 VDC
WE-TVSP Power TVS Diode, Unidirectional, 400 W, 78 VDC; partNo: 824500781; Manufacturer: Wurth Elektronik; ComponentLink1Description: Manufacturer; ComponentLink1URL: http://www.we-online.de; Created by: Baojun Chen; Created Date: Nov.2015; ComponentLink2Description: Datasheet; ComponentLink2URL: http://katalog.we-online.de/pbs/datasheet/824500781.pdf
footprint DO-214AC_Unidirectional
pins: 1, 2

## WE-TVSP DO-214AC, 824500800
designator D?, comment Unidirectional, 400 W, 8.0 VDC
WE-TVSP Power TVS Diode, Unidirectional, 400 W, 8.0 VDC; partNo: 824500800; Manufacturer: Wurth Elektronik; ComponentLink1Description: Manufacturer; ComponentLink1URL: http://www.we-online.de; Created by: Baojun Chen; Created Date: Nov.2015; ComponentLink2Description: Datasheet; ComponentLink2URL: http://katalog.we-online.de/pbs/datasheet/824500800.pdf
footprint DO-214AC_Unidirectional
pins: 1, 2

## WE-TVSP DO-214AC, 824500850
designator D?, comment Unidirectional, 400 W, 8.5 VDC
WE-TVSP Power TVS Diode, Unidirectional, 400 W, 8.5 VDC; partNo: 824500850; Manufacturer: Wurth Elektronik; ComponentLink1Description: Manufacturer; ComponentLink1URL: http://www.we-online.de; Created by: Baojun Chen; Created Date: Nov.2015; ComponentLink2Description: Datasheet; ComponentLink2URL: http://katalog.we-online.de/pbs/datasheet/824500850.pdf
footprint DO-214AC_Unidirectional
pins: 1, 2

## WE-TVSP DO-214AC, 824500851
designator D?, comment Unidirectional, 400 W, 85 VDC
WE-TVSP Power TVS Diode, Unidirectional, 400 W, 85 VDC; partNo: 824500851; Manufacturer: Wurth Elektronik; ComponentLink1Description: Manufacturer; ComponentLink1URL: http://www.we-online.de; Created by: Baojun Chen; Created Date: Nov.2015; ComponentLink2Description: Datasheet; ComponentLink2URL: http://katalog.we-online.de/pbs/datasheet/824500851.pdf
footprint DO-214AC_Unidirectional
pins: 1, 2

## WE-TVSP DO-214AC, 824500900
designator D?, comment Unidirectional, 400 W, 9.0 VDC
WE-TVSP Power TVS Diode, Unidirectional, 400 W, 9.0 VDC; partNo: 824500900; Manufacturer: Wurth Elektronik; ComponentLink1Description: Manufacturer; ComponentLink1URL: http://www.we-online.de; Created by: Baojun Chen; Created Date: Nov.2015; ComponentLink2Description: Datasheet; ComponentLink2URL: http://katalog.we-online.de/pbs/datasheet/824500900.pdf
footprint DO-214AC_Unidirectional
pins: 1, 2

## WE-TVSP DO-214AC, 824500901
designator D?, comment Unidirectional, 400 W, 90 VDC
WE-TVSP Power TVS Diode, Unidirectional, 400 W, 90 VDC; partNo: 824500901; Manufacturer: Wurth Elektronik; ComponentLink1Description: Manufacturer; ComponentLink1URL: http://www.we-online.de; Created by: Baojun Chen; Created Date: Nov.2015; ComponentLink2Description: Datasheet; ComponentLink2URL: http://katalog.we-online.de/pbs/datasheet/824500901.pdf
footprint DO-214AC_Unidirectional
pins: 1, 2


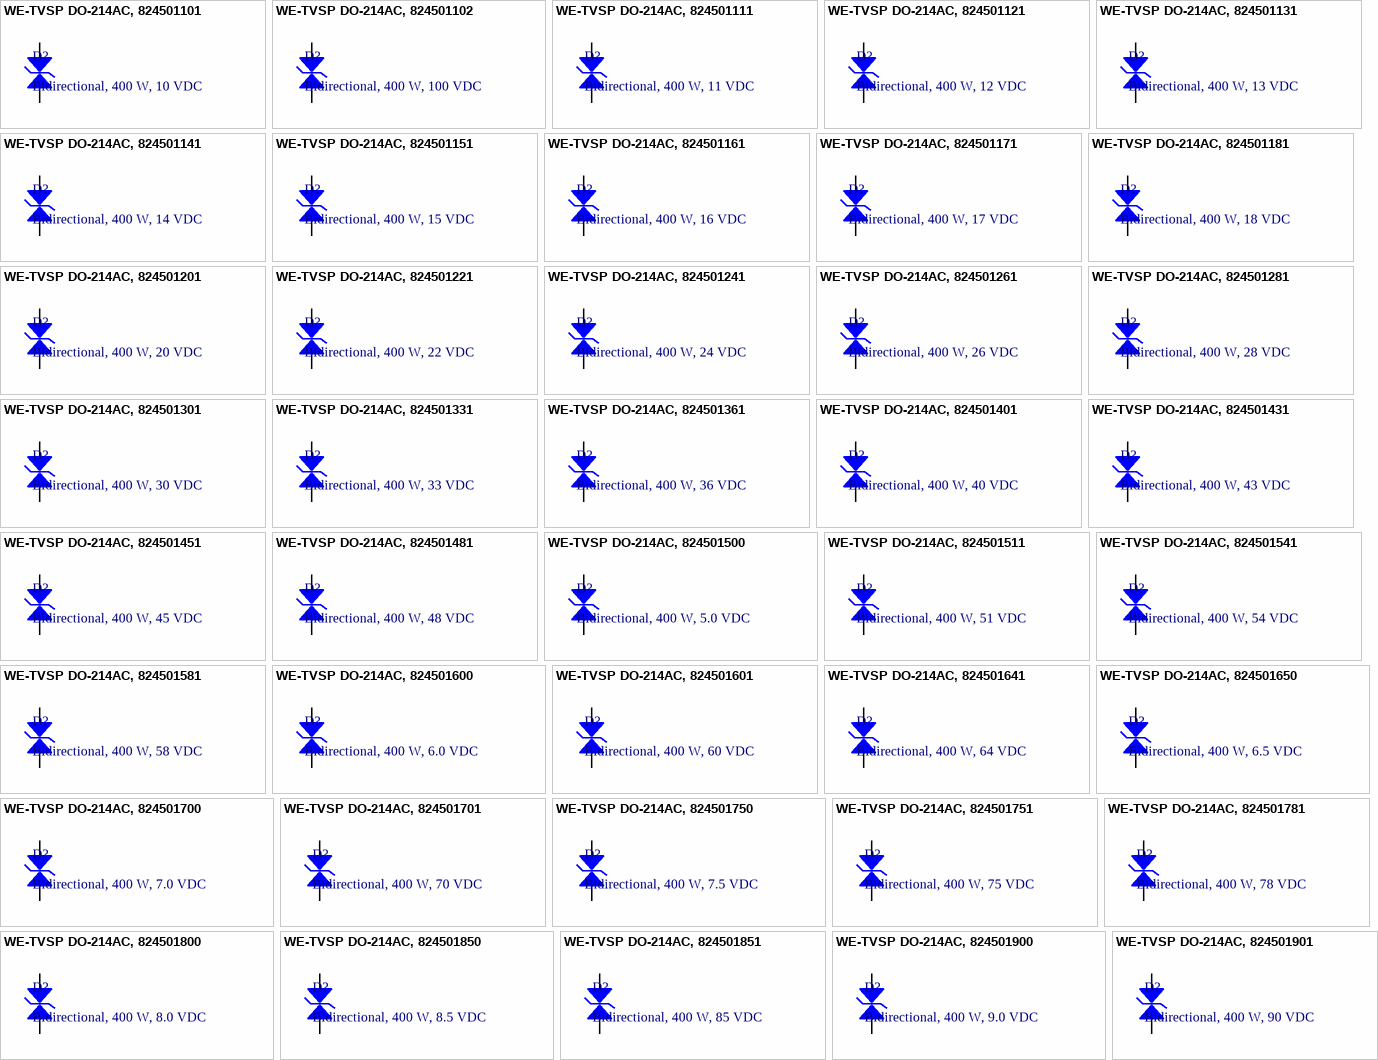
[diagram p7: symbols WE-TVSP DO-214AC, 824501101 to WE-TVSP DO-214AC, 824501901]

## WE-TVSP DO-214AC, 824501101
designator D?, comment Bidirectional, 400 W, 10 VDC
WE-TVSP Power TVS Diode, bidirectional, 400 W, 10 VDC; partNo: 824501101; Manufacturer: Wurth Elektronik; ComponentLink1Description: Manufacturer; ComponentLink1URL: http://www.we-online.de; Created by: Baojun Chen; Created Date: Nov.2015; ComponentLink2Description: Datasheet; ComponentLink2URL: http://katalog.we-online.de/pbs/datasheet/824501101.pdf
footprint DO-214AC_Bidirectional
pins: 1, 2

## WE-TVSP DO-214AC, 824501102
designator D?, comment Bidirectional, 400 W, 100 VDC
WE-TVSP Power TVS Diode, bidirectional, 400 W, 100 VDC; partNo: 824501102; Manufacturer: Wurth Elektronik; ComponentLink1Description: Manufacturer; ComponentLink1URL: http://www.we-online.de; Created by: Baojun Chen; Created Date: Nov.2015; ComponentLink2Description: Datasheet; ComponentLink2URL: http://katalog.we-online.de/pbs/datasheet/824501102.pdf
footprint DO-214AC_Bidirectional
pins: 1, 2

## WE-TVSP DO-214AC, 824501111
designator D?, comment Bidirectional, 400 W, 11 VDC
WE-TVSP Power TVS Diode, bidirectional, 400 W, 11 VDC; partNo: 824501111; Manufacturer: Wurth Elektronik; ComponentLink1Description: Manufacturer; ComponentLink1URL: http://www.we-online.de; Created by: Baojun Chen; Created Date: Nov.2015; ComponentLink2Description: Datasheet; ComponentLink2URL: http://katalog.we-online.de/pbs/datasheet/824501111.pdf
footprint DO-214AC_Bidirectional
pins: 1, 2

## WE-TVSP DO-214AC, 824501121
designator D?, comment Bidirectional, 400 W, 12 VDC
WE-TVSP Power TVS Diode, bidirectional, 400 W, 12 VDC; partNo: 824501121; Manufacturer: Wurth Elektronik; ComponentLink1Description: Manufacturer; ComponentLink1URL: http://www.we-online.de; Created by: Baojun Chen; Created Date: Nov.2015; ComponentLink2Description: Datasheet; ComponentLink2URL: http://katalog.we-online.de/pbs/datasheet/824501121.pdf
footprint DO-214AC_Bidirectional
pins: 1, 2

## WE-TVSP DO-214AC, 824501131
designator D?, comment Bidirectional, 400 W, 13 VDC
WE-TVSP Power TVS Diode, bidirectional, 400 W, 13 VDC; partNo: 824501131; Manufacturer: Wurth Elektronik; ComponentLink1Description: Manufacturer; ComponentLink1URL: http://www.we-online.de; Created by: Baojun Chen; Created Date: Nov.2015; ComponentLink2Description: Datasheet; ComponentLink2URL: http://katalog.we-online.de/pbs/datasheet/824501131.pdf
footprint DO-214AC_Bidirectional
pins: 1, 2

## WE-TVSP DO-214AC, 824501141
designator D?, comment Bidirectional, 400 W, 14 VDC
WE-TVSP Power TVS Diode, bidirectional, 400 W, 14 VDC; partNo: 824501141; Manufacturer: Wurth Elektronik; ComponentLink1Description: Manufacturer; ComponentLink1URL: http://www.we-online.de; Created by: Baojun Chen; Created Date: Nov.2015; ComponentLink2Description: Datasheet; ComponentLink2URL: http://katalog.we-online.de/pbs/datasheet/824501141.pdf
footprint DO-214AC_Bidirectional
pins: 1, 2

## WE-TVSP DO-214AC, 824501151
designator D?, comment Bidirectional, 400 W, 15 VDC
WE-TVSP Power TVS Diode, bidirectional, 400 W, 15 VDC; partNo: 824501151; Manufacturer: Wurth Elektronik; ComponentLink1Description: Manufacturer; ComponentLink1URL: http://www.we-online.de; Created by: Baojun Chen; Created Date: Nov.2015; ComponentLink2Description: Datasheet; ComponentLink2URL: http://katalog.we-online.de/pbs/datasheet/824501151.pdf
footprint DO-214AC_Bidirectional
pins: 1, 2

## WE-TVSP DO-214AC, 824501161
designator D?, comment Bidirectional, 400 W, 16 VDC
WE-TVSP Power TVS Diode, bidirectional, 400 W, 16 VDC; partNo: 824501161; Manufacturer: Wurth Elektronik; ComponentLink1Description: Manufacturer; ComponentLink1URL: http://www.we-online.de; Created by: Baojun Chen; Created Date: Nov.2015; ComponentLink2Description: Datasheet; ComponentLink2URL: http://katalog.we-online.de/pbs/datasheet/824501161.pdf
footprint DO-214AC_Bidirectional
pins: 1, 2

## WE-TVSP DO-214AC, 824501171
designator D?, comment Bidirectional, 400 W, 17 VDC
WE-TVSP Power TVS Diode, bidirectional, 400 W, 17 VDC; partNo: 824501171; Manufacturer: Wurth Elektronik; ComponentLink1Description: Manufacturer; ComponentLink1URL: http://www.we-online.de; Created by: Baojun Chen; Created Date: Nov.2015; ComponentLink2Description: Datasheet; ComponentLink2URL: http://katalog.we-online.de/pbs/datasheet/824501171.pdf
footprint DO-214AC_Bidirectional
pins: 1, 2

## WE-TVSP DO-214AC, 824501181
designator D?, comment Bidirectional, 400 W, 18 VDC
WE-TVSP Power TVS Diode, bidirectional, 400 W, 18 VDC; partNo: 824501181; Manufacturer: Wurth Elektronik; ComponentLink1Description: Manufacturer; ComponentLink1URL: http://www.we-online.de; Created by: Baojun Chen; Created Date: Nov.2015; ComponentLink2Description: Datasheet; ComponentLink2URL: http://katalog.we-online.de/pbs/datasheet/824501181.pdf
footprint DO-214AC_Bidirectional
pins: 1, 2

## WE-TVSP DO-214AC, 824501201
designator D?, comment Bidirectional, 400 W, 20 VDC
WE-TVSP Power TVS Diode, bidirectional, 400 W, 20 VDC; partNo: 824501201; Manufacturer: Wurth Elektronik; ComponentLink1Description: Manufacturer; ComponentLink1URL: http://www.we-online.de; Created by: Baojun Chen; Created Date: Nov.2015; ComponentLink2Description: Datasheet; ComponentLink2URL: http://katalog.we-online.de/pbs/datasheet/824501201.pdf
footprint DO-214AC_Bidirectional
pins: 1, 2

## WE-TVSP DO-214AC, 824501221
designator D?, comment Bidirectional, 400 W, 22 VDC
WE-TVSP Power TVS Diode, bidirectional, 400 W, 22 VDC; partNo: 824501221; Manufacturer: Wurth Elektronik; ComponentLink1Description: Manufacturer; ComponentLink1URL: http://www.we-online.de; Created by: Baojun Chen; Created Date: Nov.2015; ComponentLink2Description: Datasheet; ComponentLink2URL: http://katalog.we-online.de/pbs/datasheet/824501221.pdf
footprint DO-214AC_Bidirectional
pins: 1, 2

## WE-TVSP DO-214AC, 824501241
designator D?, comment Bidirectional, 400 W, 24 VDC
WE-TVSP Power TVS Diode, bidirectional, 400 W, 24 VDC; partNo: 824501241; Manufacturer: Wurth Elektronik; ComponentLink1Description: Manufacturer; ComponentLink1URL: http://www.we-online.de; Created by: Baojun Chen; Created Date: Nov.2015; ComponentLink2Description: Datasheet; ComponentLink2URL: http://katalog.we-online.de/pbs/datasheet/824501241.pdf
footprint DO-214AC_Bidirectional
pins: 1, 2

## WE-TVSP DO-214AC, 824501261
designator D?, comment Bidirectional, 400 W, 26 VDC
WE-TVSP Power TVS Diode, bidirectional, 400 W, 26 VDC; partNo: 824501261; Manufacturer: Wurth Elektronik; ComponentLink1Description: Manufacturer; ComponentLink1URL: http://www.we-online.de; Created by: Baojun Chen; Created Date: Nov.2015; ComponentLink2Description: Datasheet; ComponentLink2URL: http://katalog.we-online.de/pbs/datasheet/824501261.pdf
footprint DO-214AC_Bidirectional
pins: 1, 2

## WE-TVSP DO-214AC, 824501281
designator D?, comment Bidirectional, 400 W, 28 VDC
WE-TVSP Power TVS Diode, bidirectional, 400 W, 28 VDC; partNo: 824501281; Manufacturer: Wurth Elektronik; ComponentLink1Description: Manufacturer; ComponentLink1URL: http://www.we-online.de; Created by: Baojun Chen; Created Date: Nov.2015; ComponentLink2Description: Datasheet; ComponentLink2URL: http://katalog.we-online.de/pbs/datasheet/824501281.pdf
footprint DO-214AC_Bidirectional
pins: 1, 2

## WE-TVSP DO-214AC, 824501301
designator D?, comment Bidirectional, 400 W, 30 VDC
WE-TVSP Power TVS Diode, bidirectional, 400 W, 30 VDC; partNo: 824501301; Manufacturer: Wurth Elektronik; ComponentLink1Description: Manufacturer; ComponentLink1URL: http://www.we-online.de; Created by: Baojun Chen; Created Date: Nov.2015; ComponentLink2Description: Datasheet; ComponentLink2URL: http://katalog.we-online.de/pbs/datasheet/824501301.pdf
footprint DO-214AC_Bidirectional
pins: 1, 2

## WE-TVSP DO-214AC, 824501331
designator D?, comment Bidirectional, 400 W, 33 VDC
WE-TVSP Power TVS Diode, bidirectional, 400 W, 33 VDC; partNo: 824501331; Manufacturer: Wurth Elektronik; ComponentLink1Description: Manufacturer; ComponentLink1URL: http://www.we-online.de; Created by: Baojun Chen; Created Date: Nov.2015; ComponentLink2Description: Datasheet; ComponentLink2URL: http://katalog.we-online.de/pbs/datasheet/824501331.pdf
footprint DO-214AC_Bidirectional
pins: 1, 2

## WE-TVSP DO-214AC, 824501361
designator D?, comment Bidirectional, 400 W, 36 VDC
WE-TVSP Power TVS Diode, bidirectional, 400 W, 36 VDC; partNo: 824501361; Manufacturer: Wurth Elektronik; ComponentLink1Description: Manufacturer; ComponentLink1URL: http://www.we-online.de; Created by: Baojun Chen; Created Date: Nov.2015; ComponentLink2Description: Datasheet; ComponentLink2URL: http://katalog.we-online.de/pbs/datasheet/824501361.pdf
footprint DO-214AC_Bidirectional
pins: 1, 2

## WE-TVSP DO-214AC, 824501401
designator D?, comment Bidirectional, 400 W, 40 VDC
WE-TVSP Power TVS Diode, bidirectional, 400 W, 40 VDC; partNo: 824501401; Manufacturer: Wurth Elektronik; ComponentLink1Description: Manufacturer; ComponentLink1URL: http://www.we-online.de; Created by: Baojun Chen; Created Date: Nov.2015; ComponentLink2Description: Datasheet; ComponentLink2URL: http://katalog.we-online.de/pbs/datasheet/824501401.pdf
footprint DO-214AC_Bidirectional
pins: 1, 2

## WE-TVSP DO-214AC, 824501431
designator D?, comment Bidirectional, 400 W, 43 VDC
WE-TVSP Power TVS Diode, bidirectional, 400 W, 43 VDC; partNo: 824501431; Manufacturer: Wurth Elektronik; ComponentLink1Description: Manufacturer; ComponentLink1URL: http://www.we-online.de; Created by: Baojun Chen; Created Date: Nov.2015; ComponentLink2Description: Datasheet; ComponentLink2URL: http://katalog.we-online.de/pbs/datasheet/824501431.pdf
footprint DO-214AC_Bidirectional
pins: 1, 2

## WE-TVSP DO-214AC, 824501451
designator D?, comment Bidirectional, 400 W, 45 VDC
WE-TVSP Power TVS Diode, bidirectional, 400 W, 45 VDC; partNo: 824501451; Manufacturer: Wurth Elektronik; ComponentLink1Description: Manufacturer; ComponentLink1URL: http://www.we-online.de; Created by: Baojun Chen; Created Date: Nov.2015; ComponentLink2Description: Datasheet; ComponentLink2URL: http://katalog.we-online.de/pbs/datasheet/824501451.pdf
footprint DO-214AC_Bidirectional
pins: 1, 2

## WE-TVSP DO-214AC, 824501481
designator D?, comment Bidirectional, 400 W, 48 VDC
WE-TVSP Power TVS Diode, bidirectional, 400 W, 48 VDC; partNo: 824501481; Manufacturer: Wurth Elektronik; ComponentLink1Description: Manufacturer; ComponentLink1URL: http://www.we-online.de; Created by: Baojun Chen; Created Date: Nov.2015; ComponentLink2Description: Datasheet; ComponentLink2URL: http://katalog.we-online.de/pbs/datasheet/824501481.pdf
footprint DO-214AC_Bidirectional
pins: 1, 2

## WE-TVSP DO-214AC, 824501500
designator D?, comment Bidirectional, 400 W, 5.0 VDC
WE-TVSP Power TVS Diode, bidirectional, 400 W, 5.0 VDC; partNo: 824501500; Manufacturer: Wurth Elektronik; ComponentLink1Description: Manufacturer; ComponentLink1URL: http://www.we-online.de; Created by: Baojun Chen; Created Date: Nov.2015; ComponentLink2Description: Datasheet; ComponentLink2URL: http://katalog.we-online.de/pbs/datasheet/824501500.pdf
footprint DO-214AC_Bidirectional
pins: 1, 2

## WE-TVSP DO-214AC, 824501511
designator D?, comment Bidirectional, 400 W, 51 VDC
WE-TVSP Power TVS Diode, bidirectional, 400 W, 51 VDC; partNo: 824501511; Manufacturer: Wurth Elektronik; ComponentLink1Description: Manufacturer; ComponentLink1URL: http://www.we-online.de; Created by: Baojun Chen; Created Date: Nov.2015; ComponentLink2Description: Datasheet; ComponentLink2URL: http://katalog.we-online.de/pbs/datasheet/824501511.pdf
footprint DO-214AC_Bidirectional
pins: 1, 2

## WE-TVSP DO-214AC, 824501541
designator D?, comment Bidirectional, 400 W, 54 VDC
WE-TVSP Power TVS Diode, bidirectional, 400 W, 54 VDC; partNo: 824501541; Manufacturer: Wurth Elektronik; ComponentLink1Description: Manufacturer; ComponentLink1URL: http://www.we-online.de; Created by: Baojun Chen; Created Date: Nov.2015; ComponentLink2Description: Datasheet; ComponentLink2URL: http://katalog.we-online.de/pbs/datasheet/824501541.pdf
footprint DO-214AC_Bidirectional
pins: 1, 2

## WE-TVSP DO-214AC, 824501581
designator D?, comment Bidirectional, 400 W, 58 VDC
WE-TVSP Power TVS Diode, bidirectional, 400 W, 58 VDC; partNo: 824501581; Manufacturer: Wurth Elektronik; ComponentLink1Description: Manufacturer; ComponentLink1URL: http://www.we-online.de; Created by: Baojun Chen; Created Date: Nov.2015; ComponentLink2Description: Datasheet; ComponentLink2URL: http://katalog.we-online.de/pbs/datasheet/824501581.pdf
footprint DO-214AC_Bidirectional
pins: 1, 2

## WE-TVSP DO-214AC, 824501600
designator D?, comment Bidirectional, 400 W, 6.0 VDC
WE-TVSP Power TVS Diode, bidirectional, 400 W, 6.0 VDC; partNo: 824501600; Manufacturer: Wurth Elektronik; ComponentLink1Description: Manufacturer; ComponentLink1URL: http://www.we-online.de; Created by: Baojun Chen; Created Date: Nov.2015; ComponentLink2Description: Datasheet; ComponentLink2URL: http://katalog.we-online.de/pbs/datasheet/824501600.pdf
footprint DO-214AC_Bidirectional
pins: 1, 2